# Altium footprint library PAL.PcbLib: 209 footprints (part 1 of 14)
Each footprint in its own frame and in the unit in brackets; x right, y up, seen from the top. Pads: shape width x height; smd on the part's side, far side on the other; paste and mask are expansions set on the pad; w line width, h text height; cw(c..) or ccw(c..) is an arc to the next point about the centre after c.
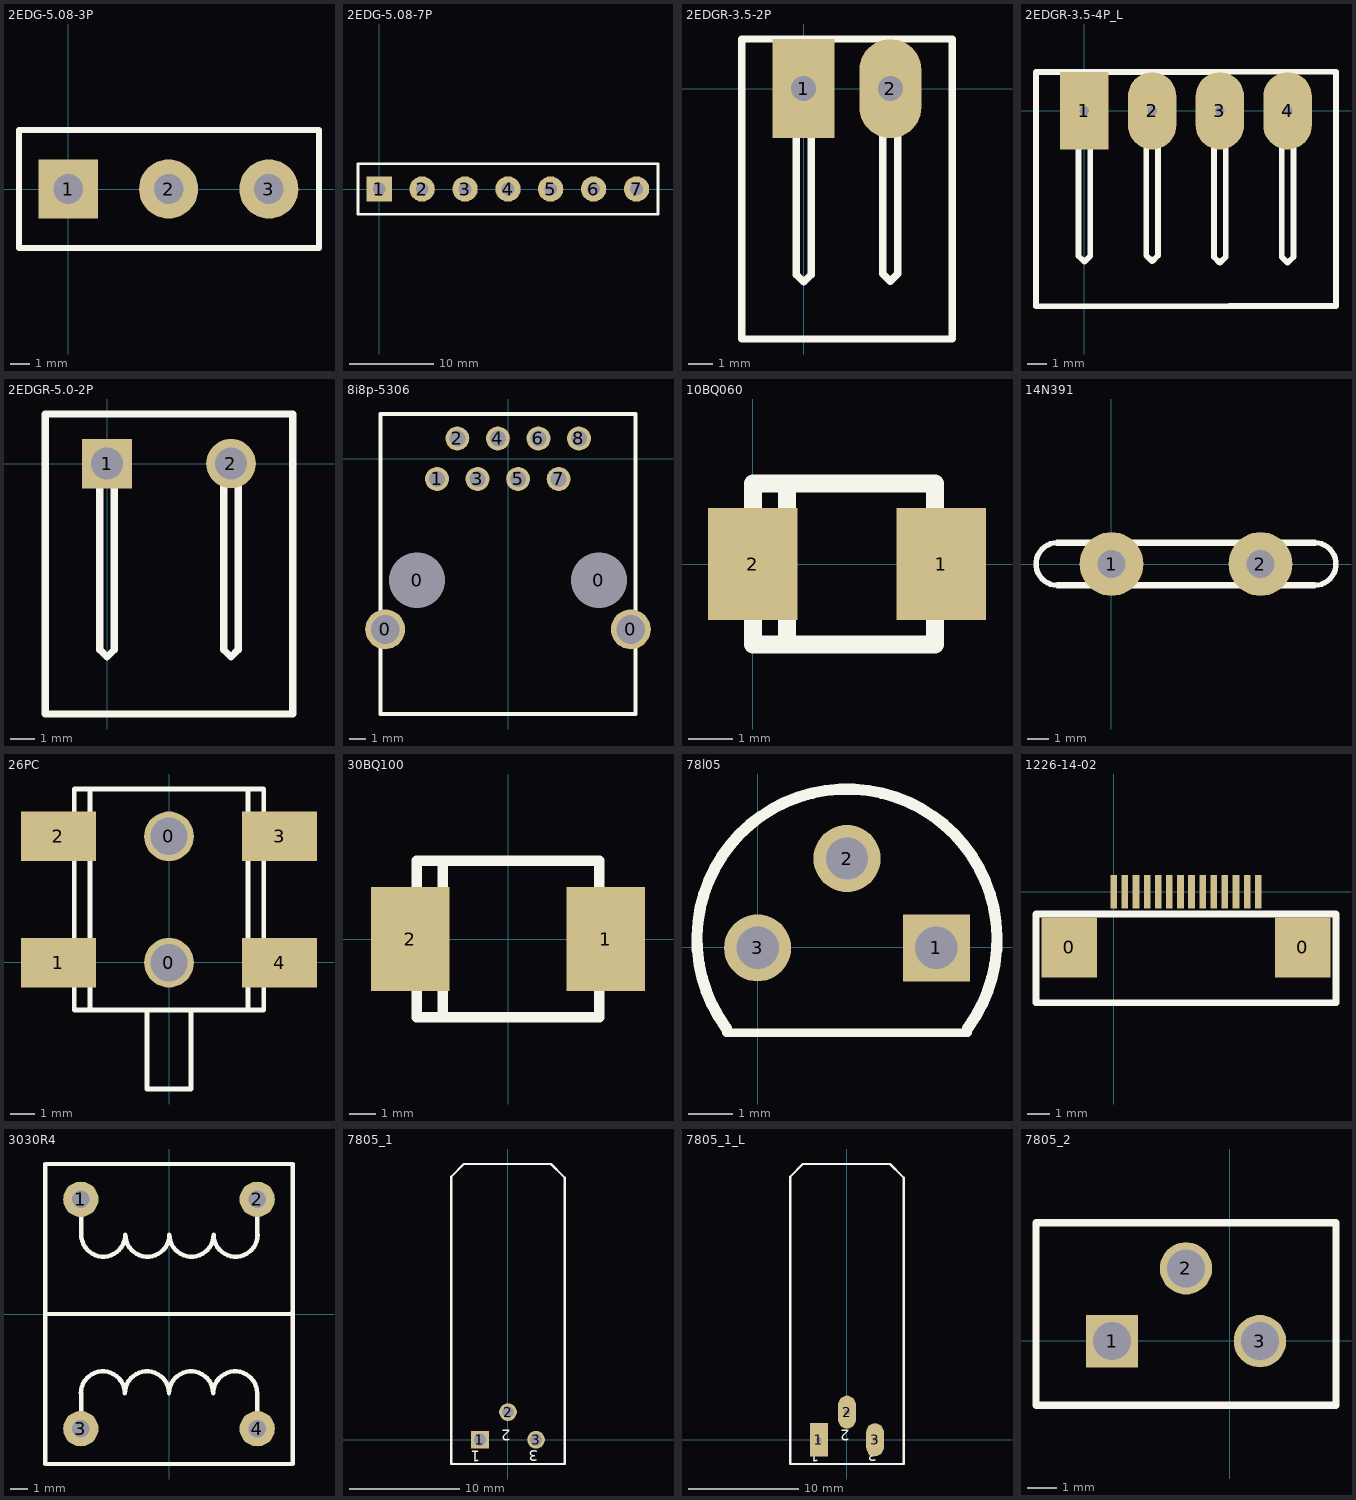
[diagram p0: the footprints below, top view; thin cyan lines are the x and y axes]

## 2EDG-5.08-3P [mm]
pads (3):
  rect 3x3 hole 1.5: 1(0,0)
  round 3 hole 1.5: 2(5.08,0) 3(10.16,0)
Top Overlay:
  lines w0.3: -2.5,-3 -2.5,3 12.7,3 12.7,-3 -2.5,-3

## 2EDG-5.08-7P [mm]
pads (7):
  rect 3x3 hole 1.5: 1(0,0)
  round 3 hole 1.5: 2(5.08,0) 3(10.16,0) 4(15.24,0) 5(20.28,0) 6(25.36,0) 7(30.44,0)
Top Overlay:
  lines w0.3: -2.5,-3 32.98,-3 32.98,3 -2.5,3 -2.5,-3

## 2EDGR-3.5-2P [mm]
pads (2):
  rect 2.5x4 hole 1: 1(0,0)
  oval 2.5x4 hole 1: 2(3.5,0)
Top Overlay:
  lines w0.3: 6,-10.1 -2.5,-10.1 -2.5,2 6,2 6,-10 ; -0.3,-7.5 0,-7.8 0.3,-7.5 0.3,0 0,0 -0.3,0 -0.3,-7.5 ; 3.2,-7.475 3.5,-7.775 3.8,-7.475 3.8,0.025 3.5,0.025 3.2,0.025 3.2,-7.475

## 2EDGR-3.5-4P_L [mm]
pads (4):
  rect 2.5x4 hole 0.5: 1(0,0)
  oval 2.5x4 hole 0.5: 2(3.5,0) 3(7,0) 4(10.5,0)
Top Overlay:
  lines w0.3: 7.5,-10.1 -2.5,-10.1 -2.5,2 7.5,2 ; 7.5,-10.075 13,-10.075 13,2.025 7.5,2.025 ; -0.3,-7.5 0,-7.8 0.3,-7.5 0.3,0 0,0 -0.3,0 -0.3,-7.5 ; 3.2,-7.475 3.5,-7.775 3.8,-7.475 3.8,0.025 3.5,0.025 3.2,0.025 3.2,-7.475 ; 6.7,-7.55 7,-7.85 7.3,-7.55 7.3,-0.05 7,-0.05 6.7,-0.05 6.7,-7.55 ; 10.2,-7.55 10.5,-7.85 10.8,-7.55 10.8,-0.05 10.5,-0.05 10.2,-0.05 10.2,-7.55

## 2EDGR-5.0-2P [mm] "2EDGR-5.0-2P"
pads (2):
  rect 2x2 hole 1.3: 1(0,0)
  round 2 hole 1.3: 2(5,0)
Top Overlay:
  lines w0.3: -2.5,-10.1 -2.5,2 7.5,2 7.5,-10.1 -2.5,-10.1 ; -0.3,-7.5 0,-7.8 0.3,-7.5 0.3,0 0,0 -0.3,0 -0.3,-7.5 ; 4.7,-7.5 5,-7.8 5.3,-7.5 5.3,0 5,0 4.7,0 4.7,-7.5

## 8i8p-5306 [mm]
pads (12):
  round 2.5 hole 1.8: 0(-7.7,-10.7) 0(7.7,-10.7)
  round 1.5 hole 3.5: 0(-5.7,-7.62) 0(5.7,-7.62)
  round 1.5 hole 1: 1(-4.445,-1.27) 2(-3.175,1.27) 3(-1.905,-1.27) 4(-0.635,1.27) 5(0.635,-1.27) 6(1.905,1.27) 7(3.175,-1.27) 8(4.445,1.27)
Top Overlay:
  lines w0.254: -8,-16 8,-16 8,2.8 -8,2.8 -8,-16

## 10BQ060 [mm]
pads (2):
  rect 2x2.5 smd: 1(4.2,0) 2(0,0)
Top Overlay:
  lines w0.4: 0.762,-1.8 0.762,1.8 ; 0,-1.8 4.064,-1.8 4.064,1.8 0,1.8 0,-1.8

## 14N391 [mm]
pads (2):
  round 3 hole 1.3: 1(0.003,0.002) 2(7.003,0.002)
Top Overlay:
  lines w0.254: -2.547,-0.999 cw(c-2.547,0.002) -2.547,1.002 ; 9.553,-0.999 ccw(c9.553,0.002) 9.553,1.002
  lines w0.3: -2.547,1.002 3.502,1.002 9.553,1.002 ; -2.522,-0.998 3.503,-0.998 9.528,-0.998

## 26PC [mm]
pads (6):
  round 2 hole 1.5: 0(-0.012,-0.01) 0(-0.012,5.07)
  rect 3x2 smd: 1(-4.457,-0.01) 2(-4.457,5.07) 3(4.433,5.07) 4(4.433,-0.01)
Top Overlay:
  lines w0.2: -3.187,-1.915 -3.187,6.975 ; -0.901,-1.915 -0.901,-5.09 0.877,-5.09 0.877,-1.915 ; 3.163,-1.915 3.163,6.975 ; -3.822,-1.915 -3.822,6.975 3.798,6.975 3.798,-1.915 -3.822,-1.915

## 30BQ100  [mm]
pads (2):
  rect 3x4 smd: 1(3.75,0) 2(-3.75,0)
Top Overlay:
  lines w0.4: -2.5,-3 -2.5,3 ; -3.5,-3 3.5,-3 3.5,3 -3.5,3 -3.5,-3

## 78l05 [mm]
pads (3):
  rect 1.5x1.5 hole 0.95: 1(3.994,-0.012)
  round 1.5 hole 0.95: 2(1.994,1.988) 3(-0.006,-0.012)
Top Overlay:
  lines w0.2: -0.701,-1.908 4.689,-1.908
  lines w0.254: -0.701,-1.808 cw(c1.994,0.188) 4.689,-1.808

## 1226-14-02 [mm]
pads (16):
  rect 2.5x2.7 smd: 0(-2,-2.5) 0(8.5,-2.5)
  rect 0.3x1.5 smd: 1(0,0) 2(0.5,0) 3(1,0) 4(1.5,0) 5(2,0) 6(2.5,0) 7(3,0) 8(3.5,0) 9(4,0) 10(4.5,0) 11(5,0) 12(5.5,0) 13(6,0) 14(6.5,0)
Top Overlay:
  lines w0.3: -3.5,-5 10,-5 10,-1 -3.5,-1 -3.5,-5

## 3030R4 [mm]
pads (4):
  round 2 hole 1: 1(-5,6.5) 2(5,6.5) 3(-5,-6.5) 4(5,-6.5)
Top Overlay:
  lines w0.254: -6.925,0 6.9,0 6.975,0.075 ; -5,-4.5 cw(c-3.75,-4.5) -2.5,-4.5 cw(c-1.25,-4.5) 0,-4.5 cw(c1.25,-4.5) 2.5,-4.5 cw(c3.75,-4.5) 5,-4.5 ; -4.975,-6.525 -4.975,-4.425 ; -4.975,4.475 -4.975,6.475 -4.95,6.5 ; -4.975,4.5 ccw(c-3.725,4.5) -2.475,4.5 ccw(c-1.225,4.5) 0.025,4.5 ccw(c1.275,4.5) 2.525,4.5 ccw(c3.775,4.5) 5.025,4.5 ; 5,-6.475 5,-4.475 ; 5,4.425 5,6.525 ; -7,-8.5 -7,8.5 7,8.5 7,-8.5 -7,-8.5

## 7805_1 [mm]
pads (3):
  rect 1.6x1.6 hole 1.1: 1(-2.538,-0.011)
  round 1.6 hole 1.1: 2(0.002,2.489) 3(2.542,-0.011)
Top Overlay:
  lines w0.2: 5.152,2.489 5.152,23.739 5.002,23.889 3.902,24.989 -3.998,24.989 -5.148,23.839 -5.148,2.689 -5.148,-2.211 5.152,-2.211 5.152,2.689
  text "1" at -2.498,-1.011 h1
  text "2" at 0.252,0.889 h1
  text "3" at 2.752,-0.961 h1

## 7805_1_L [mm]
pads (3):
  rect 1.6x3 hole 0.5: 1(-2.538,-0.011)
  oval 1.6x3 hole 0.5: 2(0.002,2.489) 3(2.542,-0.011)
Top Overlay:
  lines w0.2: 5.152,2.489 5.152,23.739 5.002,23.889 3.902,24.989 -3.998,24.989 -5.148,23.839 -5.148,2.689 -5.148,-2.211 5.152,-2.211 5.152,2.689
  text "1" at -2.498,-1.011 h1
  text "2" at 0.252,0.889 h1
  text "3" at 2.752,-0.961 h1

## 7805_2 [mm]
pads (3):
  rect 1.8x1.8 hole 1.3: 1(-4.042,-0.011)
  round 1.8 hole 1.3: 2(-1.502,2.489) 3(1.038,-0.011)
Top Overlay:
  lines w0.2: -6.652,2.689 -6.652,-2.211 3.648,-2.211 3.648,2.689
  lines w0.254: -6.652,-2.211 3.648,-2.211 3.648,4.053 -6.652,4.053 -6.652,-2.211 ; -6.652,-2.211 -6.652,-2.211